# Altium footprint library CONAN-15_F.PcbLib: 1 footprints
Each footprint in its own frame and in the unit in brackets; x right, y up, seen from the top. Pads: shape width x height; smd on the part's side, far side on the other; paste and mask are expansions set on the pad; w line width, h text height; cw(c..) or ccw(c..) is an arc to the next point about the centre after c.
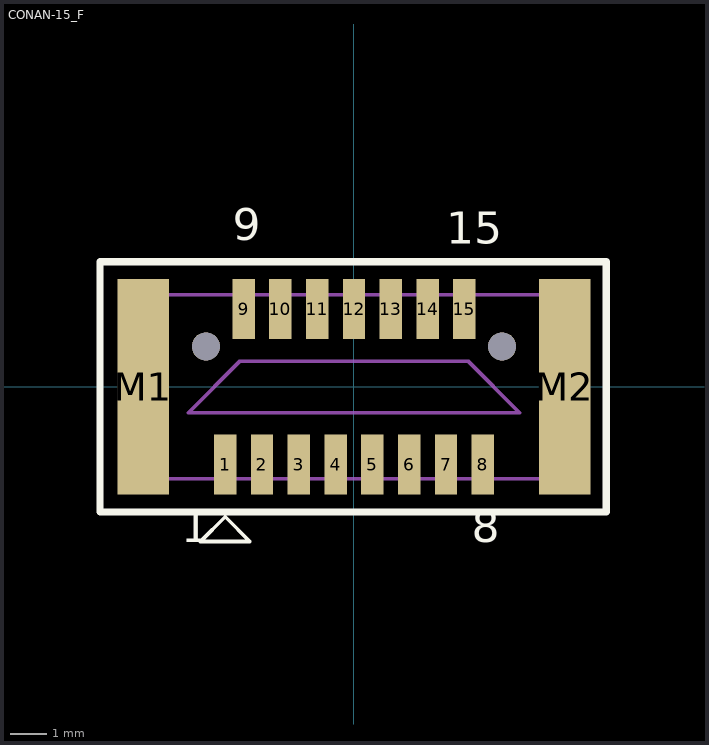
[diagram p0: the footprint, top view; thin cyan lines are the x and y axes]

## CONAN-15_F [mm]
height 3.2
pads (19):
  rect 0.61x1.63 smd: 1(-3.5,-2.11) 2(-2.5,-2.11) 3(-1.5,-2.11) 4(-0.5,-2.11) 5(0.5,-2.11) 6(1.5,-2.11) 7(2.5,-2.11) 8(3.5,-2.11) 9(-3,2.11) 10(-2,2.11) 11(-1,2.11) 12(0,2.11) 13(1,2.11) 14(2,2.11) 15(3,2.11)
  rect 1.4x5.85 smd: M1(-5.72,0) M2(5.72,0)
  round 0.76 hole 0.762 unplated: ""(-4.026,1.1) ""(4.026,1.1)
Top Overlay:
  lines w0.1: -4.17,-4.2 -3.5,-3.53 -2.83,-4.2 -4.17,-4.2
  lines w0.2: -6.9,-3.4 -6.9,3.4 6.854,3.4 6.854,-3.4 -6.9,-3.4
  text "9" at -3.3,3.7 h1.5
  text "15" at 2.5,3.6 h1.5
  text "8" at 3.2,-4.5 h1.5
  text "1" at -4.7,-4.5 h1.5
Mechanical 13:
  lines w0.1: -6.15,-2.5 -6.15,2.5 6.154,2.5 6.154,-2.5 -6.15,-2.5 ; -4.5,-0.7 -3.1,0.7 3.1,0.7 4.5,-0.7 -4.5,-0.7
Mechanical 15:
  lines w0.05: -6.9,-3.4 -6.9,3.4 6.854,3.4 6.854,-3.4 -6.9,-3.4
3D body: height 3.2, standoff 0, extent -6.2,-2.55 6.154,2.55